# Altium footprint library syhaunguyen.PcbLib: 329 footprints (part 5 of 21)
Each footprint in its own frame and in the unit in brackets; x right, y up, seen from the top. Pads: shape width x height; smd on the part's side, far side on the other; paste and mask are expansions set on the pad; w line width, h text height; cw(c..) or ccw(c..) is an arc to the next point about the centre after c.
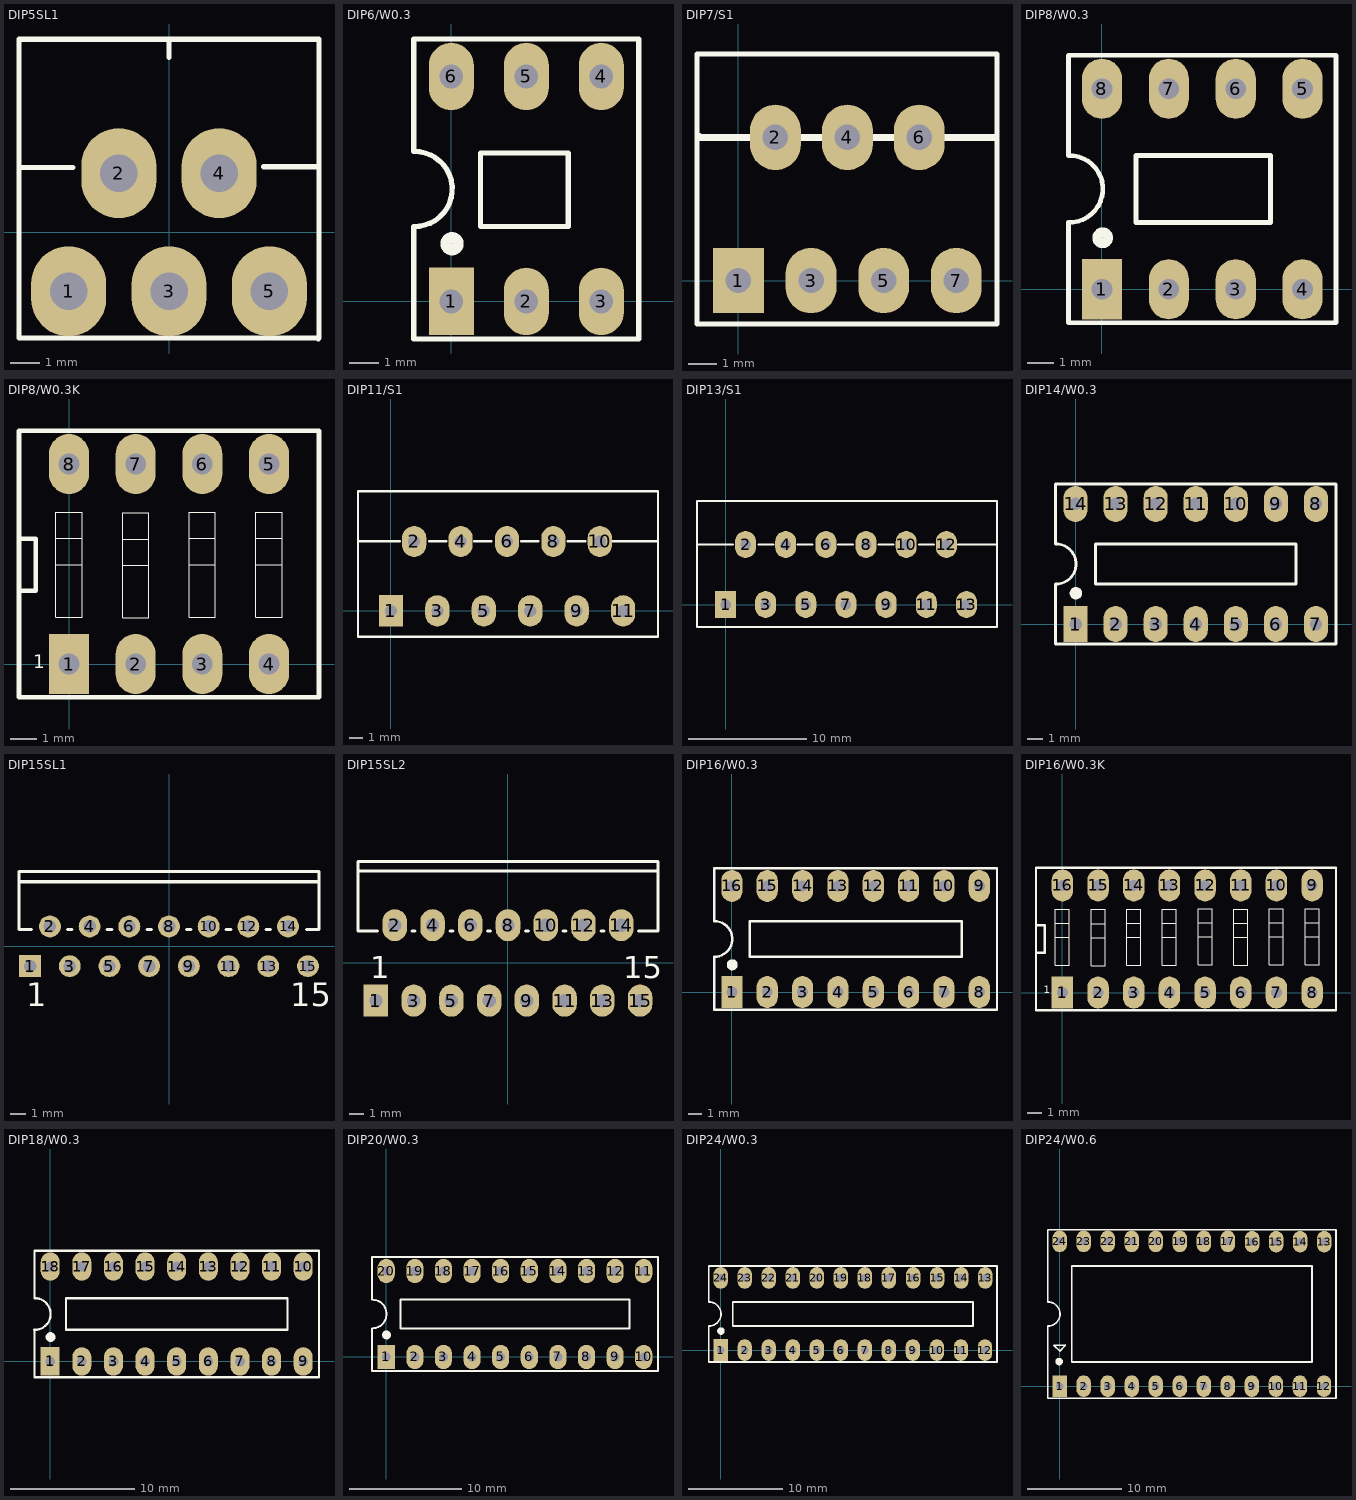
[diagram p4: the footprints below, top view; thin cyan lines are the x and y axes]

## DIP5SL1 [mm]
pads (5):
  oval 2.54x3.048 hole 1.27: 1(-3.4,-2) 2(-1.7,2) 3(0,-2) 4(1.7,2) 5(3.4,-2)
Top Overlay:
  lines w0.178: -5.076,2.191 -3.248,2.191 ; 0,5.918 0,6.502 ; 3.204,2.216 5.033,2.216 ; -5.08,-3.581 -5.08,6.534 5.08,6.534 5.08,-3.581 5.055,-3.607 5.029,-3.581 -5.08,-3.581
3D body: height 18.81, standoff -9.47, extent -4.993,-2.246 5.207,6.31

## DIP6/W0.3 [mil] "6 PIN, W 300mil, Pin to pin 100mil"
height 100
pads (6):
  rect 60x90 hole 31.5: 1(0,0)
  oval 60x90 hole 31.5: 2(100,0) 3(200,0) 4(200,300) 5(100,300) 6(0,300)
Top Overlay:
  circle w15: c1,77 r8
  lines w7: -50.38,100.05 ccw(c-48.69,150.02) -50,200 ; -50,100 -50,-50 250,-50 250,350 -50,350 -50,201 ; 39,100 156,100 156,198 39,198 39,100
3D body: height 169.69, standoff -129.13, extent -58.11,-7.48 260,307.48

## DIP7/S1 [mil]
pads (7):
  rect 70x90 hole 35: 1(0,0)
  oval 70x90 hole 35: 2(51,197) 3(100,0) 4(150,197) 5(200,0) 6(249,197) 7(300,0)
Top Overlay:
  lines w7: -57,-60 356,-60 356,312 -57,312 -57,-60
  lines w10: -54,198 -54,197 354,197
3D body: height 756.77, standoff -77.87, extent -50.57,-11.02 351,311.02

## DIP8/W0.3 [mil] "8 PIN, W 300mil, Pin to pin 100mil"
height 100
pads (8):
  rect 60x90 hole 31: 1(0,0)
  oval 60x90 hole 31: 2(100,0) 3(200,0) 4(300,0) 5(300,300) 6(200,300) 7(100,300) 8(0,300)
Top Overlay:
  circle w15: c1,77 r8
  lines w7: -50.38,100.05 ccw(c-48.69,150.02) -50,200 ; -50,100 -50,-50 350,-50 350,350 -50,350 -50,201 ; 51,100 51,200 252,200 252,100 51,100
3D body: height 201.25, standoff -129.47, extent -50,-40 350,336.4

## DIP8/W0.3K [mil] "8 PIN, W 400mil , L 450mil, Pin to pin 100mil For Switch"
height 100
pads (8):
  rect 60x90 hole 31: 1(0,0)
  oval 60x90 hole 31: 2(100,0) 3(200,0) 4(300,0) 5(300,300) 6(200,300) 7(100,300) 8(0,300)
Top Overlay:
  lines w1.5: -19.68,149 19.68,149 ; -19.68,188.37 19.68,188.37 ; 80.31,148 119.69,148 ; 80.31,187.37 119.69,187.37 ; 180.31,149 219.69,149 ; 180.31,188.37 219.69,188.37 ; 280.31,149 319.69,149 ; 280.31,188.37 319.69,188.37 ; -19.68,70.26 -19.68,227.74 19.68,227.74 19.68,70.26 -19.68,70.26 ; 80.31,69.26 80.31,226.74 119.69,226.74 119.69,69.26 80.31,69.26 ; 180.31,70.26 180.31,227.74 219.69,227.74 219.69,70.26 180.31,70.26 ; 280.31,70.26 280.31,227.74 319.69,227.74 319.69,70.26 280.31,70.26
  lines w7: -75,68.5 -75,233 ; -75,110 -50,110 -50,188 -74,188 -75,189 ; -75,126 -75,-50 375,-50 375,350 -75,350 -75,176
  text "1" at -54,-6 h20
3D body: height 158.27, standoff -9.84, extent -80,-45.08 377.87,345.08

## DIP11/S1 [mil] "11 Pin so le hai hang cach nhau 200mil., Pin to pin 100mil"
pads (11):
  rect 70x90 hole 35: 1(0,0)
  oval 70x90 hole 35: 2(66.93,200) 3(133.86,0) 4(200.79,200) 5(267.72,0) 6(334.65,200) 7(401.57,0) 8(468.5,200) 9(535.43,0) 10(602.36,200) 11(669.29,0)
Top Overlay:
  lines w7: -95,200 25,200 ; 110,200 160,200 ; 240,200 290,200 ; 375,200 425,200 ; 510,200 560,200 ; 630,200 770,200 ; -95,-75 -95,345 770,345 770,-75 -95,-75

## DIP13/S1 [mil] "13 Pin so le hai hang cach nhau 200mil., Pin to pin 100mil"
pads (13):
  rect 70x90 hole 35: 1(0,0)
  oval 70x90 hole 35: 2(66.93,200) 3(133.86,0) 4(200.79,200) 5(267.72,0) 6(334.65,200) 7(401.57,0) 8(468.5,200) 9(535.43,0) 10(602.36,200) 11(669.29,0) 12(736.22,200) 13(803.15,0)
Top Overlay:
  lines w7: -95,200 25,200 ; 110,200 160,200 ; 240,200 290,200 ; 375,200 425,200 ; 510,200 560,200 ; 645,200 695,200 ; 775,200 905,200 ; -95,-75 905,-75 905,345 -95,345 -95,-75

## DIP14/W0.3 [mil] "14PIN, W 300mil, Pin to pin 100mil"
height 100
pads (14):
  rect 60x90 hole 31: 1(0,0)
  oval 60x90 hole 31: 2(100,0) 3(200,0) 4(300,0) 5(400,0) 6(500,0) 7(600,0) 8(600,300) 9(500,300) 10(400,300) 11(300,300) 12(200,300) 13(100,300) 14(0,300)
Top Overlay:
  circle w15: c1,77 r8
  lines w7: -50.38,100.05 ccw(c-48.69,150.02) -50,200 ; -50,100 -50,-50 650,-50 650,350 -50,350 -50,201 ; 50,100 50,200 550,200 550,100 50,100
3D body: height 145.48, standoff -129.32, extent -69.99,-12.47 680.01,302.49

## DIP15SL1 [mm] "TO, Thru-Hole, Vertical, Heatsink Mounted; 15 Bent Staggered Leads; Pitch 1.27 mm"
height 17.3
pads (15):
  rect 1.4x1.4 hole 0.8: 1(-8.89,-1.27)
  round 1.4 hole 0.8: 2(-7.62,1.27) 3(-6.35,-1.27) 4(-5.08,1.27) 5(-3.81,-1.27) 6(-2.54,1.27) 7(-1.27,-1.27) 8(0,1.27) 9(1.27,-1.27) 10(2.54,1.27) 11(3.81,-1.27) 12(5.08,1.27) 13(6.35,-1.27) 14(7.62,1.27) 15(8.89,-1.27)
Top Overlay:
  lines w0.2: -9.6,4.13 9.6,4.13 ; -8.8,1.08 -9.6,1.08 -9.6,4.78 9.6,4.78 9.6,1.08 8.8,1.08 ; -6.5,1.08 -6.2,1.08 ; -3.96,1.08 -3.66,1.08 ; -1.42,1.08 -1.12,1.08 ; 1.12,1.08 1.42,1.08 ; 3.66,1.08 3.96,1.08 ; 6.2,1.08 6.5,1.08
  text "1" at -9.14,-3.845 h1.5
  text "15" at 7.765,-3.845 h1.5
3D body: height 22.74, standoff -2.18, extent -9.8,-1.778 9.8,7.29

## DIP15SL2 [mil] "TO, Thru-Hole, Vertical, Heatsink Mounted; 15 Bent Staggered Leads; Pitch 1.27 mm"
height 826.77
pads (15):
  rect 65x85 hole 35.43: 1(-350,-100)
  oval 65x85 hole 35.43: 2(-300,100) 3(-250,-100) 4(-200,100) 5(-150,-100) 6(-100,100) 7(-50,-100) 8(0,100) 9(50,-100) 10(100,100) 11(150,-100) 12(200,100) 13(250,-100) 14(300,100) 15(350,-100)
Top Overlay:
  lines w7.87: -397.64,243.7 397.64,243.7 ; -346.46,84.25 -397.64,84.25 -397.64,269.29 397.64,269.29 397.64,84.25 346.46,84.25 ; -253.94,84.25 -246.06,84.25 ; -153.94,84.25 -146.06,84.25 ; -53.94,84.25 -46.06,84.25 ; 46.06,84.25 53.94,84.25 ; 146.06,84.25 153.94,84.25 ; 246.06,84.25 253.94,84.25
  text "1" at -365,-40 h59.06
  text "15" at 305,-40 h59.06
3D body: height 895.25, standoff -85.66, extent -381.82,-109.82 389.84,247.19

## DIP16/W0.3 [mil] "16 PIN, W 300mil, Pin to pin 100mil"
height 100
pads (16):
  rect 60x90 hole 31: 1(0,0)
  oval 60x90 hole 31: 2(100,0) 3(200,0) 4(300,0) 5(400,0) 6(500,0) 7(600,0) 8(700,0) 9(700,300) 10(600,300) 11(500,300) 12(400,300) 13(300,300) 14(200,300) 15(100,300) 16(0,300)
Top Overlay:
  circle w15: c1,77 r8
  lines w7: -50.38,100.05 ccw(c-48.69,150.02) -50,200 ; -50,100 -50,-50 750,-50 750,350 -49,350 -50,349 ; -50,201 -50,350 ; 50,100 50,200 650,200 650,100 50,100
3D body: height 299.42, standoff -131.12, extent -51.7,-57.39 751.7,356

## DIP16/W0.3K [mil] "16 PIN, W 300mil, Pin to pin 100mil For Switch"
height 100
pads (16):
  rect 60x90 hole 31.5: 1(0,0)
  oval 60x90 hole 31.5: 2(100,0) 3(200,0) 4(300,0) 5(400,0) 6(500,0) 7(600,0) 8(700,0) 9(700,300) 10(600,300) 11(500,300) 12(400,300) 13(300,300) 14(200,300) 15(100,300) 16(0,300)
Top Overlay:
  lines w1.5: -19.68,155 19.68,155 ; -19.68,194.37 19.68,194.37 ; 80.31,154 119.69,154 ; 80.31,193.37 119.69,193.37 ; 180.31,155 219.69,155 ; 180.31,194.37 219.69,194.37 ; 280.31,155 319.69,155 ; 280.31,194.37 319.69,194.37 ; 380.31,156 419.69,156 ; 380.31,195.37 419.69,195.37 ; 480.31,155 519.68,155 ; 480.31,194.37 519.68,194.37 ; 580.32,156 619.68,156 ; 580.32,195.37 619.68,195.37 ; 680.32,156 719.68,156 ; 680.32,195.37 719.68,195.37 ; -19.68,76.26 -19.68,233.74 19.68,233.74 19.68,76.26 -19.68,76.26 ; 80.31,75.26 80.31,232.74 119.69,232.74 119.69,75.26 80.31,75.26 ; 180.31,76.26 180.31,233.74 219.69,233.74 219.69,76.26 180.31,76.26 ; 280.31,76.26 280.31,233.74 319.69,233.74 319.69,76.26 280.31,76.26 ; 380.31,77.26 380.31,234.74 419.69,234.74 419.69,77.26 380.31,77.26 ; 480.31,76.26 480.31,233.74 519.68,233.74 519.68,76.26 480.31,76.26 ; 580.32,77.26 580.32,234.74 619.68,234.74 619.68,77.26 580.32,77.26 ; 680.32,77.26 680.32,234.74 719.68,234.74 719.68,77.26 680.32,77.26
  lines w7: -74,69.5 -74,234 ; -74,111 -49,111 -49,189 -73,189 -74,190 ; -74,125 -74,-49 -73,-50 767,-50 767,350 -74,350 -74,175
  text "1" at -52,-2 h20
3D body: height 324.8, standoff -137.8, extent -92.91,-40 792.91,345.04

## DIP18/W0.3 [mil] "18 PIN, W 300mil, Pin to pin 100mil"
height 100
pads (18):
  rect 60x90 hole 31: 1(0,0)
  oval 60x90 hole 31: 2(100,0) 3(200,0) 4(300,0) 5(400,0) 6(500,0) 7(600,0) 8(700,0) 9(800,0) 10(800,300) 11(700,300) 12(600,300) 13(500,300) 14(400,300) 15(300,300) 16(200,300) 17(100,300) 18(0,300)
Top Overlay:
  circle w15: c1,77 r8
  lines w7: -50.38,100.05 ccw(c-48.69,150.02) -50,200 ; -50,100 -50,-50 850,-50 850,350 -50,350 -50,201 ; 50,100 50,200 750,200 750,100 50,100
3D body: height 118.71, standoff -131.12, extent -51.18,-57.39 849.18,356

## DIP20/W0.3 [mil] "DIP 20, 20 PIN, W 300mil, Pin to pin 100mil"
height 100
pads (20):
  rect 60x85 hole 31: 1(0,0)
  oval 60x85 hole 31: 2(100,0) 3(200,0) 4(300,0) 5(400,0) 6(500,0) 7(600,0) 8(700,0) 9(800,0) 10(900,0) 11(900,300) 12(800,300) 13(700,300) 14(600,300) 15(500,300) 16(400,300) 17(300,300) 18(200,300) 19(100,300) 20(0,300)
Top Overlay:
  circle w15: c1,77 r8
  lines w7: -50.38,100.05 ccw(c-48.69,150.02) -50,200 ; -50,100 -50,-50 950,-50 950,350 -50,350 -50,201 ; 50,100 50,200 850,200 850,100 50,100
3D body: height 155, standoff -130, extent -91,-18 945,322

## DIP24/W0.3 [mil] "DIP24/W.300, Pin to pin 100mil"
height 100
pads (24):
  rect 60x90 hole 31: 1(0,0)
  oval 60x90 hole 31: 2(100,0) 3(200,0) 4(300,0) 5(400,0) 6(500,0) 7(600,0) 8(700,0) 9(800,0) 10(900,0) 11(1000,0) 12(1100,0) 13(1101,300) 14(1001,300) 15(901,300) 16(801,300) 17(700,300) 18(600,300) 19(500,300) 20(400,300) 21(300,300) 22(200,300) 23(100,300) 24(0,300)
Top Overlay:
  circle w15: c1,79 r8
  lines w7: -50.38,100.05 ccw(c-48.69,150.02) -50,200 ; -50,100 -50,-50 1150,-50 1150,350 -50,350 -50,201 ; 50,100 1050,100 1050,200 50,200 50,100
3D body: height 200, standoff -98.03, extent -89.04,-2.92 1181.04,306.92

## DIP24/W0.6 [mil] "DIP24/W.600, Pin to pin 100mil"
height 100
pads (24):
  rect 60x90 hole 31: 1(0,0)
  oval 60x90 hole 31: 2(100,0) 3(200,0) 4(300,0) 5(400,0) 6(500,0) 7(600,0) 8(700,0) 9(800,0) 10(900,0) 11(1000,0) 12(1100,0) 13(1101,601) 14(1001,601) 15(901,601) 16(801,601) 17(700,602) 18(600,602) 19(500,602) 20(400,602) 21(300,602) 22(200,602) 23(100,602) 24(0,602)
Top Overlay:
  circle w15: c-2,102 r8
  lines w7: -50,350 -50,650 1150,650 1150,-50 -50,-50 -50,250 ccw(c-48.31,299.97) -49.62,349.95 ; -25,170 -24,170 0,146 0,145 24,169 24,171 23,170 -25,170 ; 50,100 1050,100 1050,500 50,500 50,100
3D body: height 227.95, standoff -129.92, extent -82.52,0.16 1202.52,600